# Altium schematic symbol library Schroff.SchLib: 1 symbol
Pins are listed as number, name and electrical type; pins without a type are passive.

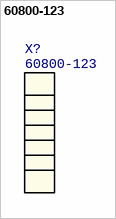
[diagram p0: symbol 60800-123]

## 60800-123
designator X?
Coding Strip; Manufacturer 1: Schroff; Manufacturer Part Number 1: 60800-123
footprint 60800-123 (Coding Strip)